# EAGLE library part MLW10G/T821106A1S (library CON-pinHeader-AON)
konektor 5x2 primy, GME MLW10G, TME Farnel RS T821106A1S Amphenol, Digi OnShore 302-S101
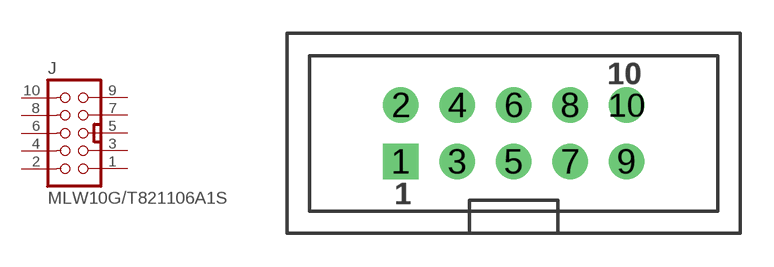
[diagram p6: symbol with the pads of MLW10-5X2-PRIMY; footprint MLW10-5X2-PRIMY]

Designator prefix J

## MLW10G/T821106A1S  [MLW10-5X2-PRIMY]
1  1  pas
2  2  pas
3  3  pas
4  4  pas
5  5  pas
6  6  pas
7  7  pas
8  8  pas
9  9  pas
10  10  pas

## Footprint MLW10-5X2-PRIMY (pad centres in mm)
drill 1 pad 1.6 square: 1 -5.08,-1.27
drill 1 pad 1.6: 2 -5.08,1.27; 3 -2.54,-1.27; 4 -2.54,1.27; 5 0,-1.27; 6 0,1.27; 7 2.54,-1.27; 8 2.54,1.27; 9 5.08,-1.27; 10 5.08,1.27